# Altium integrated library M20-7820646.IntLib: 1 symbol
Pins are listed as number, name and electrical type; pins without a type are passive.

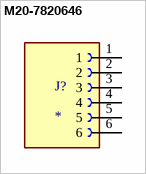
[diagram p0: symbol M20-7820646]

## M20-7820646
designator J?
MP: M20-7820646; Package: None; Price: None; Value: *; Availability: Unavailable
footprint HARWIN_M20-7820646
pins: 1, 2, 3, 4, 5, 6